# Altium footprint library MicroMatch-8.PcbLib: 1 footprints
Each footprint in its own frame and in the unit in brackets; x right, y up, seen from the top. Pads: shape width x height; smd on the part's side, far side on the other; paste and mask are expansions set on the pad; w line width, h text height; cw(c..) or ccw(c..) is an arc to the next point about the centre after c.
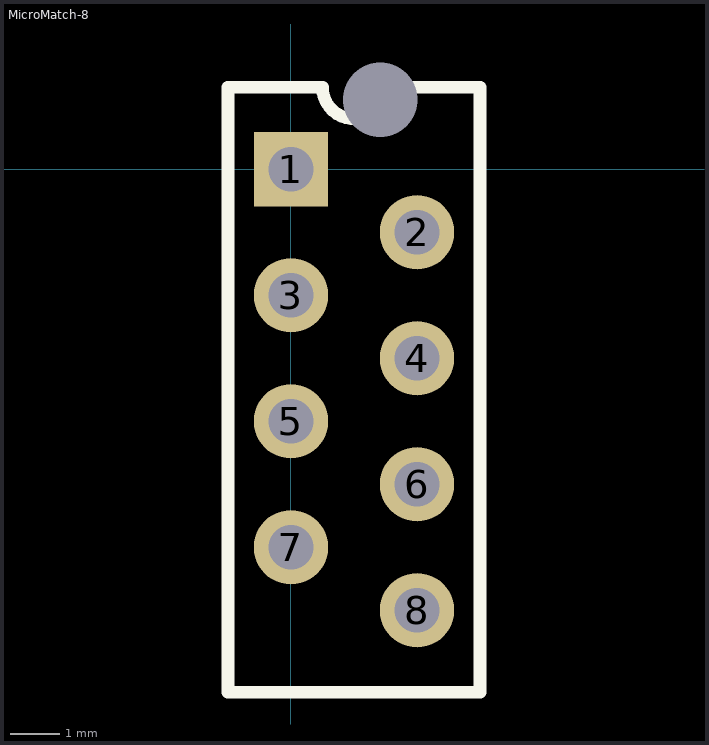
[diagram p0: the footprint, top view; thin cyan lines are the x and y axes]

## MicroMatch-8 [mm]
pads (9):
  round 0 hole 1.5: 0(1.8,1.4)
  rect 1.5x1.5 hole 0.9: 1(0,0)
  round 1.5 hole 0.9: 2(2.54,-1.27) 3(0,-2.54) 4(2.54,-3.81) 5(0,-5.08) 6(2.54,-6.35) 7(0,-7.62) 8(2.54,-8.89)
Top Overlay:
  lines w0.254: -1.27,-10.541 3.81,-10.541 3.81,1.651 1.905,1.651 cw(c1.27,1.651) 0.635,1.651 -1.27,1.651 -1.27,-10.541